# Altium footprint library ilk.PcbLib: 78 footprints (part 1 of 5)
Each footprint in its own frame and in the unit in brackets; x right, y up, seen from the top. Pads: shape width x height; smd on the part's side, far side on the other; paste and mask are expansions set on the pad; w line width, h text height; cw(c..) or ccw(c..) is an arc to the next point about the centre after c.
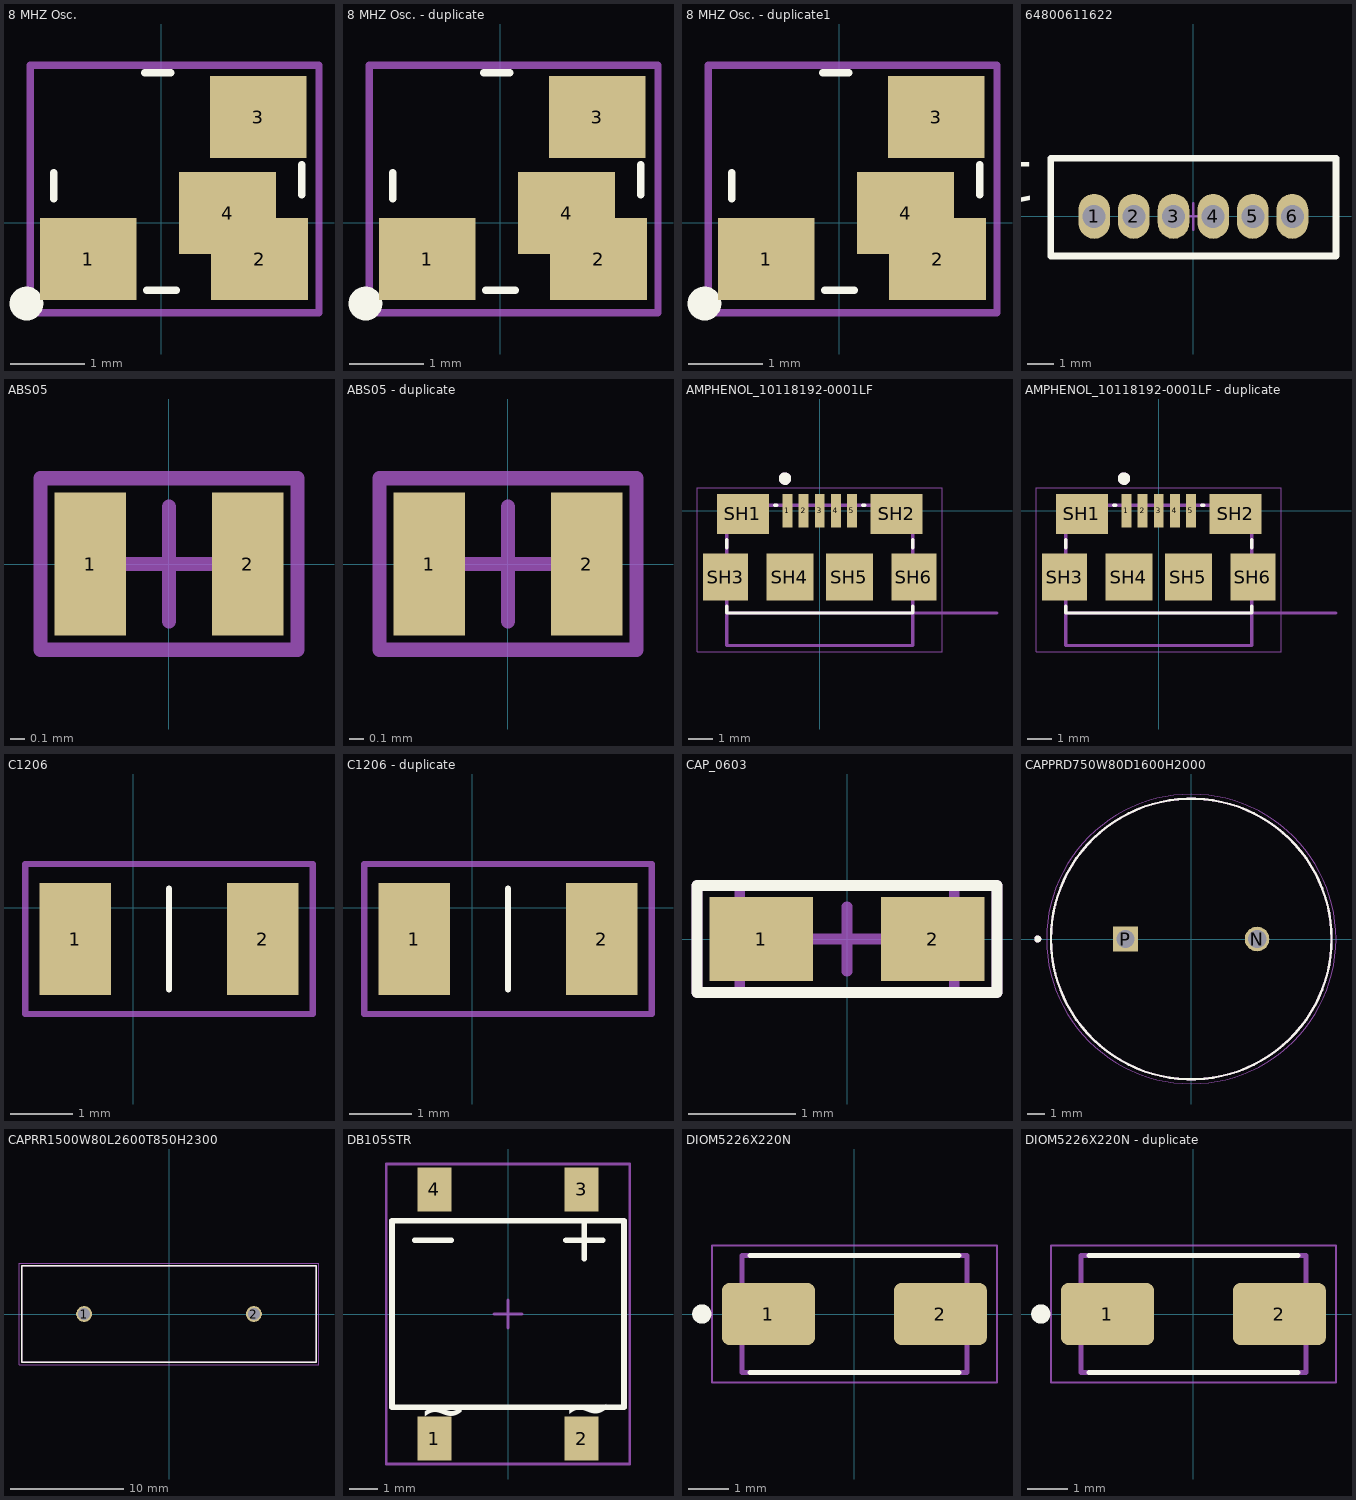
[diagram p0: the footprints below, top view; thin cyan lines are the x and y axes]

## 8 MHZ Osc. [mm]
pads (4):
  rect 1.3x1.1 smd mask+0.05: 1(-0.981,-0.49) 2(1.319,-0.49) 3(1.303,1.417) 4(0.889,0.127)
Top Overlay:
  circle w0.254: c-1.812,-1.089 r0.1
  lines w0.1: -1.445,0.318 -1.445,0.672 ; -0.224,2.01 0.13,2.01 ; -0.199,-0.911 0.201,-0.911 ; 1.884,0.376 1.884,0.776
Top Component Center:
  circle w0.254: c-1.216,-0.524 r0.1
  lines w0.1: -1.761,-1.211 2.118,-1.211 2.118,2.113 -1.761,2.113 -1.761,-1.211
3D body "ASE3.STEP": height 1.22, standoff -0.03, extent -1.379,-0.641 1.821,1.859

## 8 MHZ Osc. - duplicate [mm]
pads (4):
  rect 1.3x1.1 smd mask+0.05: 1(-0.981,-0.49) 2(1.319,-0.49) 3(1.303,1.417) 4(0.889,0.127)
Top Overlay:
  circle w0.254: c-1.812,-1.089 r0.1
  lines w0.1: -1.445,0.318 -1.445,0.672 ; -0.224,2.01 0.13,2.01 ; -0.199,-0.911 0.201,-0.911 ; 1.884,0.376 1.884,0.776
Top Component Center:
  circle w0.254: c-1.216,-0.524 r0.1
  lines w0.1: -1.761,-1.211 -1.761,2.113 2.118,2.113 2.118,-1.211 -1.761,-1.211
3D body "ASE3.STEP": height 1.22, standoff -0.03, extent -1.379,-0.641 1.821,1.859

## 8 MHZ Osc. - duplicate1 [mm]
pads (4):
  rect 1.3x1.1 smd mask+0.05: 1(-0.981,-0.49) 2(1.319,-0.49) 3(1.303,1.417) 4(0.889,0.127)
Top Overlay:
  circle w0.254: c-1.812,-1.089 r0.1
  lines w0.1: -1.445,0.318 -1.445,0.672 ; -0.224,2.01 0.13,2.01 ; -0.199,-0.911 0.201,-0.911 ; 1.884,0.376 1.884,0.776
Top Component Center:
  circle w0.254: c-1.216,-0.524 r0.1
  lines w0.1: -1.761,-1.211 2.118,-1.211 2.118,2.113 -1.761,2.113 -1.761,-1.211
3D body "ASE3.STEP": height 1.22, standoff -0.03, extent -1.379,-0.641 1.821,1.859

## 64800611622 [mm]
pads (6):
  oval 1.2x1.7 hole 0.87 mask+0.05: 1(-3.75,0) 2(-2.25,0) 3(-0.75,0) 4(0.75,0) 5(2.25,0) 6(3.75,0)
Top Overlay:
  lines w0.25: -5.4,-1.5 5.4,-1.5 5.4,2.2 -5.4,2.2 -5.4,-1.5
  text "1" at -5.954,2.046 h1.52
Top Component Center:
  lines w0.1: -0.5,0 0.5,0 ; 0,-0.5 0,0.5 ; -5.4,-1.5 -5.4,2.2 5.4,2.2 5.4,-1.5 -5.4,-1.5
Top Designator:
  lines w0.1: -5.4,-1.5 5.4,-1.5 5.4,2.2 -5.4,2.2 -5.4,-1.5
  text "'.Designator'" at -4.046,-0.238 h1.52
3D body "64800611622 (rev1).stp": height 4.75, standoff -2.45, extent -5.25,-1.4 5.25,2.1

## ABS05 [mm]
pads (2):
  rect 0.5x1 smd mask+0.05: 1(-0.55,0) 2(0.55,0)
Top Component Center:
  lines w0.1: -0.4,0 0.4,0 ; 0,-0.4 0,0.4 ; -0.9,-0.6 -0.9,0.6 0.9,0.6 0.9,-0.6 -0.9,-0.6
Top Designator:
  lines w0.1: -0.9,-0.6 -0.9,0.6 0.9,0.6 0.9,-0.6 -0.9,-0.6
  text "'.Designator'" at -1,-0.367 h0.7
3D body "ABS05.STEP": height 0.5, standoff 0, extent -0.8,-0.5 0.8,0.5

## ABS05 - duplicate [mm]
pads (2):
  rect 0.5x1 smd mask+0.05: 1(-0.55,0) 2(0.55,0)
Top Component Center:
  lines w0.1: -0.4,0 0.4,0 ; 0,-0.4 0,0.4 ; -0.9,-0.6 0.9,-0.6 0.9,0.6 -0.9,0.6 -0.9,-0.6
Top Designator:
  lines w0.1: -0.9,-0.6 0.9,-0.6 0.9,0.6 -0.9,0.6 -0.9,-0.6
  text "'.Designator'" at -1,-0.367 h0.7
3D body "ABS05.STEP": height 0.5, standoff 0, extent -0.8,-0.5 0.8,0.5

## AMPHENOL_10118192-0001LF [mm]
pads (11):
  rect 0.4x1.35 smd: 1(-1.3,0) 2(-0.65,0) 3(0,0) 4(0.65,0) 5(1.3,0)
  rect 2.1x1.6 smd: SH1(-3.1,-0.125) SH2(3.1,-0.125)
  rect 1.8x1.9 smd: SH3(-3.8,-2.675) SH6(3.8,-2.675)
  rect 1.9x1.9 smd: SH4(-1.2,-2.675) SH5(1.2,-2.675)
Top Overlay:
  circle w0.3: c-1.4,1.3 r0.1
  lines w0.127: -3.75,-3.85 -3.75,-4.125 3.75,-4.125 3.75,-3.85 ; -3.75,-1.5 -3.75,-1.15 ; -1.83,0.225 -1.72,0.225 ; 1.72,0.225 1.83,0.225 ; 3.75,-1.5 3.75,-1.15
Mechanical 13:
  circle w0.3: c-1.4,1.3 r0.1
  lines w0.127: 7.15,-4.125 3.75,-4.125 ; -3.75,-4.125 3.75,-4.125 ; -3.75,-4.125 -3.75,0.225 3.75,0.225 3.75,-4.125 ; -3.75,-4.125 -3.75,-5.436 3.75,-5.436 3.75,-4.125
  text "PCB Edge" at 5.205,-3.904 h1.52
Mechanical 15:
  lines w0.05: -4.95,-5.686 -4.95,0.925 4.95,0.925 4.95,-5.686 -4.95,-5.686
3D body "step_temp.STEP": height 2.5, standoff -0.29, extent -3.955,-5.396 3.955,0.27

## AMPHENOL_10118192-0001LF - duplicate [mm]
pads (11):
  rect 0.4x1.35 smd: 1(-1.3,0) 2(-0.65,0) 3(0,0) 4(0.65,0) 5(1.3,0)
  rect 2.1x1.6 smd: SH1(-3.1,-0.125) SH2(3.1,-0.125)
  rect 1.8x1.9 smd: SH3(-3.8,-2.675) SH6(3.8,-2.675)
  rect 1.9x1.9 smd: SH4(-1.2,-2.675) SH5(1.2,-2.675)
Top Overlay:
  circle w0.3: c-1.4,1.3 r0.1
  lines w0.127: -3.75,-3.85 -3.75,-4.125 3.75,-4.125 3.75,-3.85 ; -3.75,-1.5 -3.75,-1.15 ; -1.83,0.225 -1.72,0.225 ; 1.72,0.225 1.83,0.225 ; 3.75,-1.5 3.75,-1.15
Mechanical 13:
  circle w0.3: c-1.4,1.3 r0.1
  lines w0.127: 7.15,-4.125 3.75,-4.125 ; -3.75,-4.125 -3.75,-5.436 3.75,-5.436 3.75,-4.125 ; -3.75,-4.125 -3.75,0.225 3.75,0.225 3.75,-4.125 ; -3.75,-4.125 3.75,-4.125
  text "PCB Edge" at 5.205,-3.904 h1.52
Mechanical 15:
  lines w0.05: -4.95,-5.686 4.95,-5.686 4.95,0.925 -4.95,0.925 -4.95,-5.686
3D body "step_temp.STEP": height 2.5, standoff -0.29, extent -3.955,-5.396 3.955,0.27

## C1206 [mm]
pads (2):
  rect 1.15x1.8 smd mask+0.05: 1(-0.925,-0.5) 2(2.075,-0.5)
Top Overlay:
  lines w0.1: 0.575,-1.305 0.575,0.305
Top Component Center:
  lines w0.1: -1.725,-1.7 -1.725,0.7 2.875,0.7 2.875,-1.7 -1.725,-1.7
3D body "1206CAP.step": height 1, standoff 0, extent -1.025,-1.3 2.175,0.3

## C1206 - duplicate [mm]
pads (2):
  rect 1.15x1.8 smd mask+0.05: 1(-0.925,-0.5) 2(2.075,-0.5)
Top Overlay:
  lines w0.1: 0.575,-1.305 0.575,0.305
Top Component Center:
  lines w0.1: -1.725,-1.7 -1.725,0.7 2.875,0.7 2.875,-1.7 -1.725,-1.7
3D body "1206CAP.step": height 1, standoff 0, extent -1.025,-1.3 2.175,0.3

## CAP_0603 [mil]
pads (2):
  rect 38x31 smd mask+1.97: 1(-31.5,0) 2(31.5,0)
Top Overlay:
  lines w3.94: -55.12,-19.68 -55.12,19.68 55.12,19.68 55.12,-19.68 -55.12,-19.68
Top 3D Body:
  lines w3.94: -39.37,-19.68 39.37,-19.68 39.37,19.68 -39.37,19.68 -39.37,-19.68
Top Component Center:
  lines w3.94: -11.81,0 11.81,0 ; 0,-11.81 0,11.81 ; -55.12,-19.68 -55.12,19.68 55.12,19.68 55.12,-19.68 -55.12,-19.68
Top Designator:
  lines w3.94: -55.12,-19.68 -55.12,19.68 55.12,19.68 55.12,-19.68 -55.12,-19.68
  text ".Designator" at -39.37,-9.19 h19.68
3D body "CAPC0603.STEP": height 31.5, standoff 0, extent -41.35,-22.21 41.36,18.29

## CAPPRD750W80D1600H2000 [mm]
pads (2):
  round 1.4 hole 1.05: N(3.75,0)
  rect 1.4x1.4 hole 1.05: P(-3.75,0)
Top Overlay:
  circle w0.127: c0,0 r8
  circle w0.2: c-8.75,0 r0.1
Mechanical 13:
  circle w0.127: c0,0 r8
  circle w0.2: c-8.75,0 r0.1
Mechanical 15:
  circle w0.05: c0,0 r8.25
3D body "step_temp.STEP": height 20, standoff -17, extent -8,-7.999 8,7.999

## CAPRR1500W80L2600T850H2300 [mm]
pads (2):
  round 1.4 hole 1.05: 1(-7.5,0) 2(7.5,0)
Top Overlay:
  lines w0.127: -13,-4.25 -13,4.25 13,4.25 13,-4.25 -13,-4.25
Mechanical 13:
  lines w0.127: -13,-4.25 13,-4.25 13,4.25 -13,4.25 -13,-4.25
Mechanical 15:
  lines w0.05: -13.25,-4.5 13.25,-4.5 13.25,4.5 -13.25,4.5 -13.25,-4.5
3D body "step_temp.STEP": height 23, standoff -5, extent -13,-4.25 13,4.25

## DB105STR [mm]
pads (4):
  rect 1.2x1.55 smd mask+0.05: 1(-2.605,-4.4) 2(2.605,-4.4) 3(2.605,4.4) 4(-2.605,4.4)
Top Overlay:
  lines w0.2: -3.3,2.6 -2,2.6 ; 2.05,2.6 3.35,2.6 ; 2.7,1.95 2.7,3.25 ; -4.1,-3.3 4.1,-3.3 4.1,3.3 -4.1,3.3 -4.1,-3.3
  text "~" at -3.146,-4.116 h1.52
  text "~" at 1.954,-4.016 h1.52
Top Component Center:
  lines w0.1: -0.5,0 0.5,0 ; 0,-0.5 0,0.5 ; -4.3,-5.3 4.3,-5.3 4.3,5.3 -4.3,5.3 -4.3,-5.3
Top Designator:
  lines w0.1: -4.3,-5.3 4.3,-5.3 4.3,5.3 -4.3,5.3 -4.3,-5.3
  text ".Designator" at -3,-0.067 h1
3D body "User Library-DB107S  DB-S (1).step": height 2.66, standoff 0, extent -4.16,-5.2 4.16,5.2

## DIOM5226X220N [mm]
pads (2):
  rrect25% 2.32x1.55 smd: 1(-2.14,0) 2(2.14,0)
Top Overlay:
  circle w0.24: c-3.8,0 r0.12
  lines w0.127: -2.605,-1.46 2.605,-1.46 ; -2.605,1.46 2.605,1.46
Mechanical 13:
  lines w0.127: -2.8,-1.46 2.8,-1.46 2.8,1.46 -2.8,1.46 -2.8,-1.46
Mechanical 15:
  lines w0.05: -3.55,-1.71 -3.55,1.71 3.55,1.71 3.55,-1.71 -3.55,-1.71
3D body "step_temp.STEP": height 2.21, standoff 0, extent -2.603,-1.308 2.603,1.308

## DIOM5226X220N - duplicate [mm]
pads (2):
  rrect25% 2.32x1.55 smd: 1(-2.14,0) 2(2.14,0)
Top Overlay:
  circle w0.24: c-3.8,0 r0.12
  lines w0.127: -2.605,-1.46 2.605,-1.46 ; -2.605,1.46 2.605,1.46
Mechanical 13:
  lines w0.127: -2.8,-1.46 2.8,-1.46 2.8,1.46 -2.8,1.46 -2.8,-1.46
Mechanical 15:
  lines w0.05: -3.55,-1.71 -3.55,1.71 3.55,1.71 3.55,-1.71 -3.55,-1.71
3D body "step_temp.STEP": height 2.21, standoff 0, extent -2.603,-1.308 2.603,1.308